# EAGLE library part TE3/7 (library busbar)
BUS BAR 7 connections, grid 3 TE
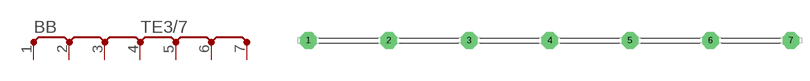
[diagram p1: symbol with the pads of TE3/7; footprint TE3/7]

Designator prefix BB

## TE3/7  [TE3/7]
1  P  pas
2  P  pas
3  P  pas
4  P  pas
5  P  pas
6  P  pas
7  P  pas

## Footprint TE3/7 (pad centres in mm)
BUS BAR 7 connections, grid 3 TE
drill 1.6 pad 3.15 octagon: 1 -45.72,0; 2 -30.48,0; 3 -15.24,0; 4 0,0; 5 15.24,0; 6 30.48,0; 7 45.72,0